# Altium footprint library NG_Components.PcbLib: 24 footprints (part 2 of 2)
Each footprint in its own frame and in the unit in brackets; x right, y up, seen from the top. Pads: shape width x height; smd on the part's side, far side on the other; paste and mask are expansions set on the pad; w line width, h text height; cw(c..) or ccw(c..) is an arc to the next point about the centre after c.
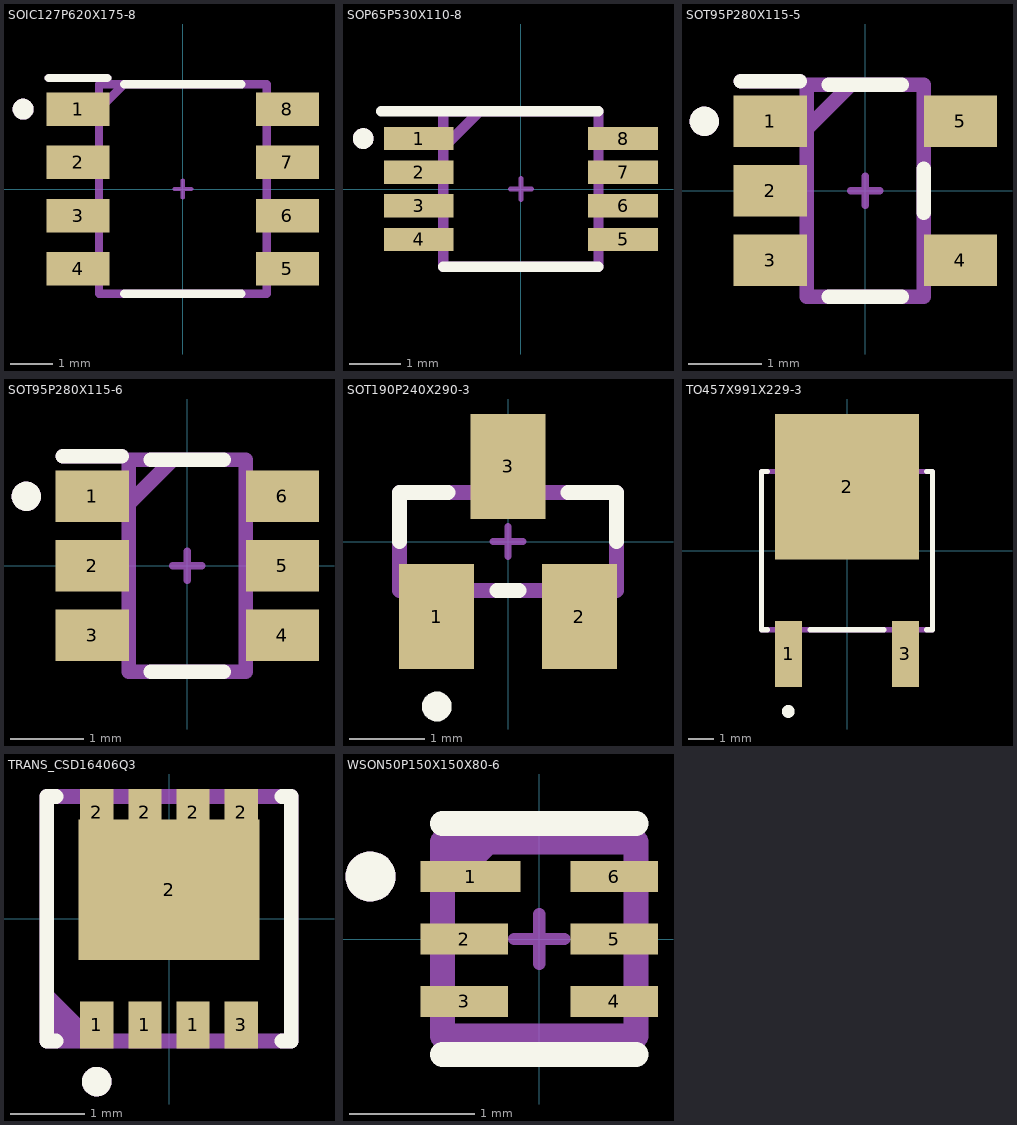
[diagram p1: the footprints below, top view; thin cyan lines are the x and y axes]

## SOIC127P620X175-8 [mm] "Generic description"
height 1.75
pads (8):
  rect 1.505x0.802 smd mask+0.05: 1(-2.498,1.905) 2(-2.498,0.635) 3(-2.498,-0.635) 4(-2.498,-1.905) 5(2.498,-1.905) 6(2.498,-0.635) 7(2.498,0.635) 8(2.498,1.905)
Top Overlay:
  circle w0.3: c-3.81,1.905 r0.1
  lines w0.2: -3.2,2.65 -1.8,2.65 ; -1.4,-2.5 1.4,-2.5 ; -1.4,2.5 1.4,2.5
Mechanical 4:
  text ".Designator" at 0.15,0.417 h0.8
Top Component Center:
  lines w0.1: -0.2,0 0.2,0 ; 0,-0.2 0,0.2
Top Component Outline:
  circle w0.3: c-3.81,1.905 r0.1
  lines w0.2: -3.2,2.65 -1.8,2.65 ; -2,1.9 -1.4,2.5 ; -2,-2.5 2,-2.5 2,2.5 -2,2.5 -2,-2.5
Top Assembly:
  circle w0.2: c-2.45,1.925 r0.1
  lines w0.2: -2,1.9 -1.4,2.5 ; -2,1.9 -2,-2.5 2,-2.5 2,2.5 -1.4,2.5 ; -2,1.9 -2,2.5 -1.4,2.5
  text ".Comment" at -2.214,-2.933 h1.02
3D body "U_SO8_NXP.step": height 1.76, standoff 0, extent -3.099,-2.54 3.099,2.54

## SOP65P530X110-8 [mm] "Small Outline Package, 8 pins"
height 1.1
pads (8):
  rect 1.35x0.45 smd mask+0.05: 1(-1.975,0.975) 2(-1.975,0.325) 3(-1.975,-0.325) 4(-1.975,-0.975) 5(1.975,-0.975) 6(1.975,-0.325) 7(1.975,0.325) 8(1.975,0.975)
Top Overlay:
  circle w0.2: c-3.05,0.975 r0.1
  lines w0.2: -2.7,1.5 -1.5,1.5 1.5,1.5 ; -1.5,-1.5 1.5,-1.5
Mechanical 4:
  text ".Designator" at 0.15,0.417 h0.8
Top Component Center:
  lines w0.1: -0.2,0 0.2,0 ; 0,-0.2 0,0.2
Top Component Outline:
  circle w0.2: c-3.05,0.975 r0.1
  lines w0.2: -1.5,0.8 -0.8,1.5 ; -1.5,-1.5 -1.5,1.5 1.5,1.5 1.5,-1.5 -1.5,-1.5
Top Assembly:
  circle w0.2: c-3.05,0.975 r0.1
  lines w0.2: -1.5,0.8 -0.8,1.5 ; -1.5,-1.5 -1.5,1.5 1.5,1.5 1.5,-1.5 -1.5,-1.5
  text ".Comment" at -3.639,-0.508 h1.02
3D body "RM_8_ADI.step": height 1.09, standoff 0, extent -2.578,-1.6 2.578,1.6

## SOT95P280X115-5 [mm] "Generic description"
height 1.15
pads (5):
  rect 1x0.7 smd mask+0.05: 1(-1.3,0.95) 2(-1.3,0) 3(-1.3,-0.95) 4(1.3,-0.95) 5(1.3,0.95)
Top Overlay:
  circle w0.2: c-2.2,0.95 r0.1
  lines w0.2: -1.7,1.5 -0.9,1.5 ; -0.5,-1.45 0.5,-1.45 ; -0.5,1.45 0.5,1.45 ; 0.8,-0.3 0.8,0.3
Mechanical 4:
  text ".Designator" at 0.15,0.417 h0.8
Top Component Center:
  lines w0.1: -0.2,0 0.2,0 ; 0,-0.2 0,0.2
Top Component Outline:
  circle w0.2: c-2.2,0.95 r0.1
  lines w0.2: -1.7,1.5 -0.9,1.5 ; -0.8,0.85 -0.2,1.45 ; -0.8,-1.45 -0.8,1.45 0.8,1.45 0.8,-1.45 -0.8,-1.45
Top Assembly:
  circle w0.2: c-2.2,0.95 r0.1
  lines w0.2: -1.7,1.5 -0.9,1.5 ; -0.8,0.85 -0.2,1.45 ; -0.8,-1.45 0.8,-1.45 0.8,1.45 -0.8,1.45 -0.8,-1.45
  text ".Comment" at -2.214,-2.933 h1.02
3D body "ADA4051-1ARJZ-R7.step": height 1.45, standoff 0, extent -1.4,-1.45 1.4,1.45

## SOT95P280X115-6 [mm] "Generic description"
height 1.15
pads (6):
  rect 1x0.7 smd mask+0.05: 1(-1.3,0.95) 2(-1.3,0) 3(-1.3,-0.95) 4(1.3,-0.95) 5(1.3,0) 6(1.3,0.95)
Top Overlay:
  circle w0.2: c-2.2,0.95 r0.1
  lines w0.2: -1.7,1.5 -0.9,1.5 ; -0.5,-1.45 0.5,-1.45 ; -0.5,1.45 0.5,1.45
Mechanical 4:
  text ".Designator" at 0.15,0.417 h0.8
Top Component Center:
  lines w0.1: -0.2,0 0.2,0 ; 0,-0.2 0,0.2
Top Component Outline:
  circle w0.2: c-2.2,0.95 r0.1
  lines w0.2: -1.7,1.5 -0.9,1.5 ; -0.8,0.85 -0.2,1.45 ; -0.8,-1.45 0.8,-1.45 0.8,1.45 -0.8,1.45 -0.8,-1.45
Top Assembly:
  circle w0.2: c-2.2,0.95 r0.1
  lines w0.2: -1.7,1.5 -0.9,1.5 ; -0.8,0.85 -0.2,1.45 ; -0.8,-1.45 -0.8,1.45 0.8,1.45 0.8,-1.45 -0.8,-1.45
  text ".Comment" at -2.214,-2.933 h1.02
3D body "TLV61070ADBVR.STEP": height 1.45, standoff 0, extent -1.4,-1.45 1.4,1.45

## SOT190P240X290-3 [mm] "Generic description"
height 0.8
pads (3):
  rect 1x1.4 smd mask+0.05: 1(-0.95,-1) 2(0.95,-1) 3(0,1)
Top Overlay:
  circle w0.2: c-0.95,-2.2 r0.1
  lines w0.2: -1.45,0 -1.45,0.65 -0.8,0.65 ; -0.15,-0.65 0.15,-0.65 ; 0.8,0.65 1.45,0.65 1.45,0
Mechanical 4:
  text ".Designator" at 0.15,0.417 h0.8
Top Component Center:
  lines w0.1: -0.2,0 0.2,0 ; 0,-0.2 0,0.2
Top Component Outline:
  lines w0.2: -1.45,-0.65 1.45,-0.65 1.45,0.65 -1.45,0.65 -1.45,-0.65
Top Assembly:
  circle w0.2: c-0.95,-1.2 r0.1
  lines w0.2: -1.45,-0.65 -1.45,0.65 1.45,0.65 1.45,-0.65 -1.45,-0.65
  text ".Comment" at -3.639,-0.508 h1.02
3D body "SOT-23_3L_ONS.step": height 1.12, standoff 0, extent -1.524,-1.321 1.524,1.321

## TO457X991X229-3 [mm] "Generic description"
height 0.8
pads (3):
  rect 1.06x2.6 smd mask+0.05: 1(-2.286,-4.05) 3(2.286,-4.05)
  rect 5.632x5.7 smd mask+0.05: 2(0,2.5)
Top Overlay:
  circle w0.3: c-2.3,-6.3 r0.1
  lines w0.2: -3.125,-3.1 -3.35,-3.1 -3.35,3.1 -3.125,3.1 ; -1.45,-3.1 1.45,-3.1 ; 3.125,-3.1 3.35,-3.1 3.35,3.1 3.125,3.1
Mechanical 4:
  text ".Designator" at 0.15,0.417 h0.8
Top Component Center:
  lines w0.1: -0.2,0 0.2,0 ; 0,-0.2 0,0.2
Top Component Outline:
  lines w0.2: -3.35,-3.075 -3.325,-3.1 ; -3.35,-3.1 -3.35,3.1 3.35,3.1 3.35,-3.1 -3.35,-3.1
Top Assembly:
  circle w0.2: c-2.275,-3.725 r0.1
  lines w0.2: -3.35,-3.1 3.35,-3.1 3.35,3.1 -3.35,3.1 -3.35,-3.1
  text ".Comment" at -2.214,-2.933 h1.02
3D body "TO252-DPAK.STP": height 2.29, standoff -0.09, extent -3.29,-4.971 3.291,4.95

## TRANS_CSD16406Q3 [mm] "VSON-CLIP"
height 0.8
pads (9):
  rect 0.45x0.63 smd paste-2539.97 mask+0.05: 1(-0.975,-1.435) 1(-0.325,-1.435) 1(0.325,-1.435) 2(-0.975,1.435) 2(-0.325,1.435) 2(0.325,1.435) 2(0.975,1.435) 3(0.975,-1.435)
  rect 2.45x1.9 smd paste-2539.97 mask+0.05: 2(0,0.39)
Top Overlay:
  circle w0.2: c-0.975,-2.2 r0.1
  lines w0.2: -1.525,-1.65 -1.65,-1.65 -1.65,1.65 -1.525,1.65 ; 1.525,-1.65 1.65,-1.65 1.65,1.65 1.525,1.65
Top Paste:
  region: -1.145,-0.46 -0.125,-0.46 -0.125,0.985 -1.145,0.985
  region: 1.145,-0.46 0.125,-0.46 0.125,0.985 1.145,0.985
  region: 0.82,-1.66 0.82,-1.21 1.13,-1.21 1.13,-1.66
  region: 0.17,-1.66 0.17,-1.21 0.48,-1.21 0.48,-1.66
  region: -0.48,-1.66 -0.48,-1.21 -0.17,-1.21 -0.17,-1.66
  region: -1.13,-1.66 -1.13,-1.21 -0.82,-1.21 -0.82,-1.66
  region: -1.145,1.21 -1.145,1.66 -0.805,1.66 -0.805,1.21
  region: 0.805,1.21 0.805,1.66 1.145,1.66 1.145,1.21
  region: 0.155,1.21 0.155,1.66 0.495,1.66 0.495,1.21
  region: -0.495,1.21 -0.495,1.66 -0.155,1.66 -0.155,1.21
Mechanical 4:
  text ".Designator" at 0.15,0.417 h0.8
Top Component Center:
  lines w0.1: -0.2,0 0.2,0 ; 0,-0.2 0,0.2
Top Component Outline:
  region: -1.65,-1.65 -0.9,-1.65 -1.65,-0.9
  lines w0.2: -1.65,-1.65 1.65,-1.65 1.65,1.65 -1.65,1.65 -1.65,-1.65
Top Assembly:
  circle w0.2: c-0.975,-2.2 r0.1
  lines w0.2: -1.65,-1.05 -1.05,-1.65 ; -1.65,-1.65 1.65,-1.65 1.65,1.65 -1.65,1.65 -1.65,-1.65
  text ".Comment" at -2.214,-2.933 h1.02
3D body "DQG0008A.stp": height 1.1, standoff 0, extent -1.65,-1.65 1.65,1.65

## WSON50P150X150X80-6 [mm] "Generic description"
height 0.8
pads (6):
  rect 0.8x0.25 smd mask+0.05: 1(-0.55,0.5)
  rect 0.7x0.25 smd mask+0.05: 2(-0.6,0) 3(-0.6,-0.5) 4(0.6,-0.5) 5(0.6,0) 6(0.6,0.5)
Top Overlay:
  circle w0.2: c-1.35,0.5 r0.1
  lines w0.2: -0.775,-0.925 0.775,-0.925 ; -0.775,0.925 0.775,0.925
Mechanical 4:
  text ".Designator" at 0.15,0.417 h0.8
Top Component Center:
  lines w0.1: -0.2,0 0.2,0 ; 0,-0.2 0,0.2
Top Component Outline:
  region: -0.775,0.775 -0.775,0.275 -0.275,0.775
  lines w0.2: -0.775,-0.775 0.775,-0.775 0.775,0.775 -0.775,0.775 -0.775,-0.775
Top Assembly:
  circle w0.2: c-1.35,0.5 r0.1
  lines w0.2: -0.775,-0.775 0.775,-0.775 0.775,0.775 -0.775,0.775 -0.775,-0.775
  text ".Comment" at -2.214,-2.933 h1.02
3D body "DSE0006A.stp": height 0.77, standoff -0.03, extent -0.75,-0.75 0.75,0.75